# Altium schematic symbol library ESD9B3.3ST5G.SchLib: 1 symbol
Pins are listed as number, name and electrical type; pins without a type are passive.

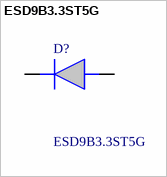
[diagram p0: symbol ESD9B3.3ST5G]

## ESD9B3.3ST5G
designator D?
SZ Prefix for Automotive and Other Applications Requiring Unique Site and Control Change Requirements ; AECQ101 Qualified and PPAP Capable ; This is a PbFree Device; Low Capacitance 15 pF; Low Clamping Voltage; Small Body Outline Dimensions: 0.039 x 0.024 (1.0mm x 0.60mm); Low Body Height: 0.016 (0.4 mm); Response Time is < 1 ns; IEC6100042 Level 4 ESD Protection; Low Leakage; Manufacturer_Name: onsemi; Geometry.Height: 0.4mm; Mouser Part Number: 863-ESD9B3.3ST5G; Mouser Price/Stock: https://www.mouser.co.uk/ProductDetail/onsemi/ESD9B3.3ST5G?qs=yU2N9dt%252BrfmXrPf3vhgUEA%3D%3D; Manufacturer_Part_Number: ESD9B3.3ST5G; Datasheet Link: https://www.onsemi.com/pub/Collateral/ESD9B-D.PDF
footprint SODFL1006X40N
pins: 1 K, 2 A